# Altium footprint library myLIB.PcbLib: 150 footprints (part 5 of 10)
Each footprint in its own frame and in the unit in brackets; x right, y up, seen from the top. Pads: shape width x height; smd on the part's side, far side on the other; paste and mask are expansions set on the pad; w line width, h text height; cw(c..) or ccw(c..) is an arc to the next point about the centre after c.
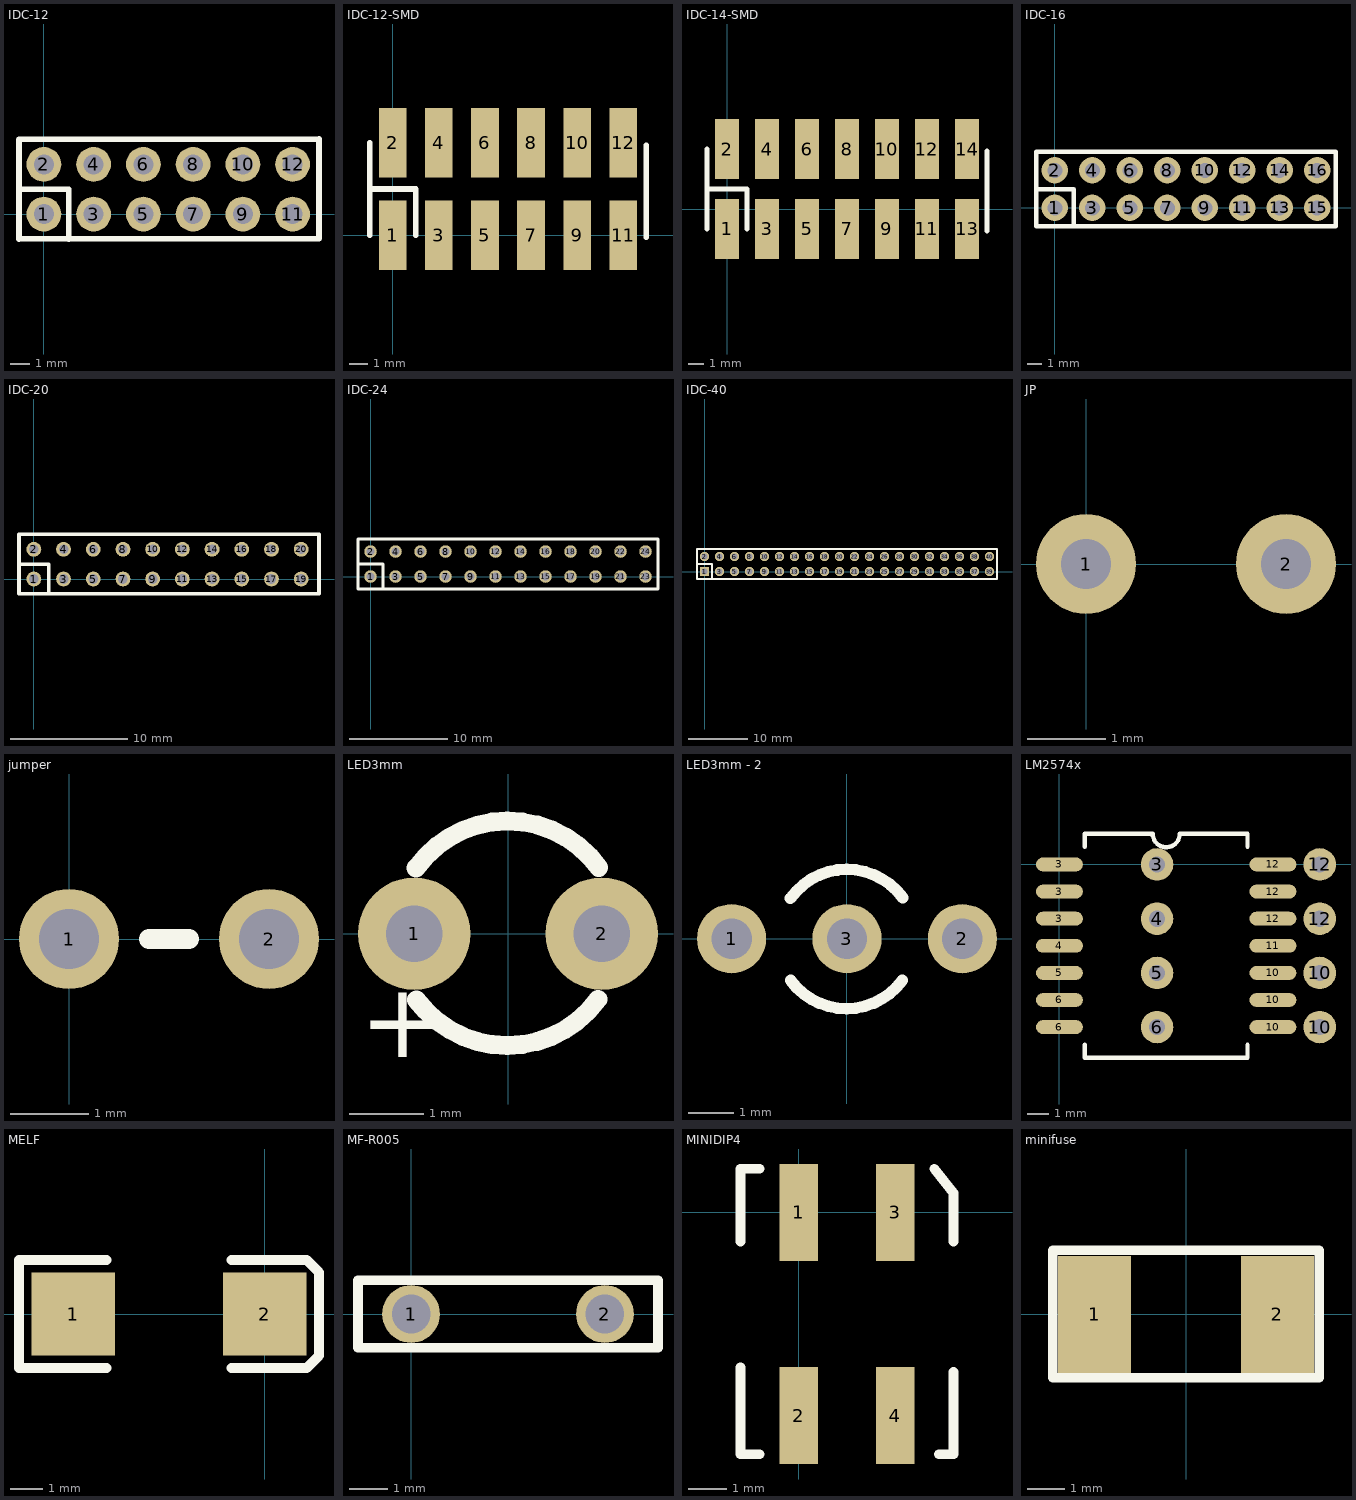
[diagram p4: the footprints below, top view; thin cyan lines are the x and y axes]

## IDC-12 [mil]
pads (12):
  round 70 hole 40: 1(0,0) 2(0,100) 3(100,0) 4(100,100) 5(200,0) 6(200,100) 7(300,0) 8(300,100) 9(400,0) 10(400,100) 11(500,0) 12(500,100)
TopOverlay:
  lines w12: -50,50 50,50 50,-50 ; -50,-50 553,-49 553,151 -50,150 -50,-50

## IDC-12-SMD [mil]
pads (12):
  rect 60x150 smd: 1(0,0) 2(0,200) 3(100,0) 4(100,200) 5(200,0) 6(200,200) 7(300,0) 8(300,200) 9(400,0) 10(400,200) 11(500,0) 12(500,200)
TopOverlay:
  lines w12: -50,0 -50,200 ; -50,100 50,100 50,0 ; 550,-5 550,195

## IDC-14-SMD [mil]
pads (14):
  rect 60x150 smd: 1(0,-50) 2(0,150) 3(100,-50) 4(100,150) 5(200,-50) 6(200,150) 7(300,-50) 8(300,150) 9(400,-50) 10(400,150) 11(500,-50) 12(500,150) 13(600,-50) 14(600,150)
TopOverlay:
  lines w12: -50,-50 -50,150 ; -50,50 50,50 50,-50 ; 650,-55 650,145

## IDC-16 [mil]
pads (16):
  round 70 hole 40: 1(0,0) 2(0,100) 3(100,0) 4(100,100) 5(200,0) 6(200,100) 7(300,0) 8(300,100) 9(400,0) 10(400,100) 11(500,0) 12(500,100) 13(600,0) 14(600,100) 15(700,0) 16(700,100)
TopOverlay:
  lines w12: -50,50 50,50 50,-50 ; -50,-50 -50,150 750,150 750,-50 -50,-50

## IDC-20 [mil]
pads (20):
  round 50 hole 32: 1(0,0) 2(0,100) 3(100,0) 4(100,100) 5(200,0) 6(200,100) 7(300,0) 8(300,100) 9(400,0) 10(400,100) 11(500,0) 12(500,100) 13(600,0) 14(600,100) 15(700,0) 16(700,100) 17(800,0) 18(800,100) 19(900,0) 20(900,100)
TopOverlay:
  lines w12: -50,50 50,50 50,-50 ; -50,-50 -50,150 960,151 960,-49 -50,-50

## IDC-24 [mil]
pads (24):
  round 50 hole 32: 1(0,0) 2(0,100) 3(100,0) 4(100,100) 5(200,0) 6(200,100) 7(300,0) 8(300,100) 9(400,0) 10(400,100) 11(500,0) 12(500,100) 13(600,0) 14(600,100) 15(700,0) 16(700,100) 17(800,0) 18(800,100) 19(900,0) 20(900,100) 21(1000,0) 22(1000,100) 23(1100,0) 24(1100,100)
TopOverlay:
  lines w12: -50,50 50,50 50,-50 ; -50,-50 1150,-50 1150,150 -50,150 -50,-50

## IDC-40 [mil]
pads (40):
  rect 62x62 hole 40: 1(0,0)
  round 62 hole 40: 2(0,100) 3(100,0) 4(100,100) 5(200,0) 6(200,100) 7(300,0) 8(300,100) 9(400,0) 10(400,100) 11(500,0) 12(500,100) 13(600,0) 14(600,100) 15(700,0) 16(700,100) 17(800,0) 18(800,100) 19(900,0) 20(900,100) 21(1000,0) 22(1000,100) 23(1100,0) 24(1100,100) 25(1200,0) 26(1200,100) 27(1300,0) 28(1300,100) 29(1400,0) 30(1400,100) 31(1500,0) 32(1500,100) 33(1600,0) 34(1600,100) 35(1700,0) 36(1700,100) 37(1800,0) 38(1800,100) 39(1900,0) 40(1900,100)
TopOverlay:
  lines w12: -50,50 50,50 50,-50 ; -50,-50 1950,-50 1950,150 -50,150 -50,-50

## JP [mil]
pads (2):
  round 50 hole 25: 1(0,0) 2(100,0)

## jumper [mil]
pads (2):
  round 50 hole 30: 1(0,0) 2(100,0)
TopOverlay:
  lines w10: 40,0 60,0

## LED3mm [mil]
pads (2):
  round 60 hole 30: 1(-50,0) 2(50,0)
TopOverlay:
  lines w10: -49,35 cw(c-0.18,0.13) 48.44,35.29 ; -48.83,-35.17 ccw(c-0.48,0.35) 48,-35
  text "+" at -79,-66 h40

## LED3mm - 2 [mil]
pads (3):
  round 60 hole 35: 1(-100,0) 2(100,0) 3(0,0)
TopOverlay:
  lines w10: -49,35 cw(c-0.18,0.13) 48.44,35.29 ; -48.83,-36.17 ccw(c-0.48,-0.65) 48,-36
  text "." at -105,-52 h60

## LM2574x [mm]
pads (22):
  oval 2.2x0.65 smd: 3(0,-2.54) 3(0,-1.27) 3(0,0) 4(0,-3.81) 5(0,-5.08) 6(0,-7.62) 6(0,-6.35) 10(10,-7.62) 10(10,-6.35) 10(10,-5.08) 11(10,-3.81) 12(10,-2.54) 12(10,-1.27) 12(10,0)
  round 1.524 hole 0.762: 3(4.572,0) 4(4.572,-2.54) 5(4.572,-5.08) 6(4.572,-7.62) 10(12.192,-7.62) 10(12.192,-5.08) 12(12.192,-2.54) 12(12.192,0)
TopOverlay:
  lines w0.2: 1.19,-8.445 1.19,-9.06 8.81,-9.06 8.81,-8.445 ; 1.19,0.825 1.19,1.44 4.365,1.44 ccw(c5,1.44) 5.635,1.44 8.81,1.44 8.81,0.825

## MELF [mil]
pads (2):
  rect 100x100 smd: 1(-230,0) 2(0,0)
TopOverlay:
  lines w12: -190,-65 -295,-65 -295,65 -190,65 ; -40,-65 50,-65 65,-50 65,50 50,65 -40,65

## MF-R005 [mil]
pads (2):
  round 60 hole 40: 1(0,0) 2(201,0)
TopOverlay:
  lines w10: -55,-35 0,-35 201,-35 256,-35 256,35 201,35 0,35 -55,35 -55,-35

## MINIDIP4 [mil]
pads (4):
  rect 40x100 smd: 1(0,0) 2(0,-210) 3(100,0) 4(100,-210)
TopOverlay:
  lines w10: -60,-160 -60,-250 -40,-250 ; -60,-30 -60,45 -40,45 ; 140,45 160,20 160,-30 ; 145,-250 160,-250 160,-165

## minifuse [mil]
pads (2):
  rect 77x124 smd: 1(-96.5,0) 2(96.5,0)
TopOverlay:
  lines w10: -141,-67 141,-67 141,68 -141,68 -141,-67